# Altium schematic symbol library ST4SI2M0020TPIFW.SchLib: 1 symbol
Pins are listed as number, name and electrical type; pins without a type are passive.

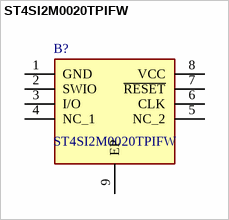
[diagram p0: symbol ST4SI2M0020TPIFW]

## ST4SI2M0020TPIFW
designator B?
ESIM GSMA SYS-ON-CHIP SOLUTION, VFDFPN; Manufacturer_Name: STMicroelectronics; Geometry.Height: 1mm; Mouser Part Number: 511-ST4SI2M0020TPIFW; Mouser Price/Stock: https://www.mouser.co.uk/ProductDetail/STMicroelectronics/ST4SI2M0020TPIFW?qs=DRkmTr78QAT1FRyrW1ScNQ%3D%3D; Manufacturer_Part_Number: ST4SI2M0020TPIFW; Datasheet Link: *
footprint SON127P600X500X100-9N
pins: 1 GND, 2 SWIO, 3 I/O, 4 NC_1, 5 NC_2, 6 CLK, 7 ~{RESET}, 8 VCC, 9 EP